# Altium schematic symbol library BOARDS.SchLib: 11 symbols
Pins are listed as number, name and electrical type; pins without a type are passive.

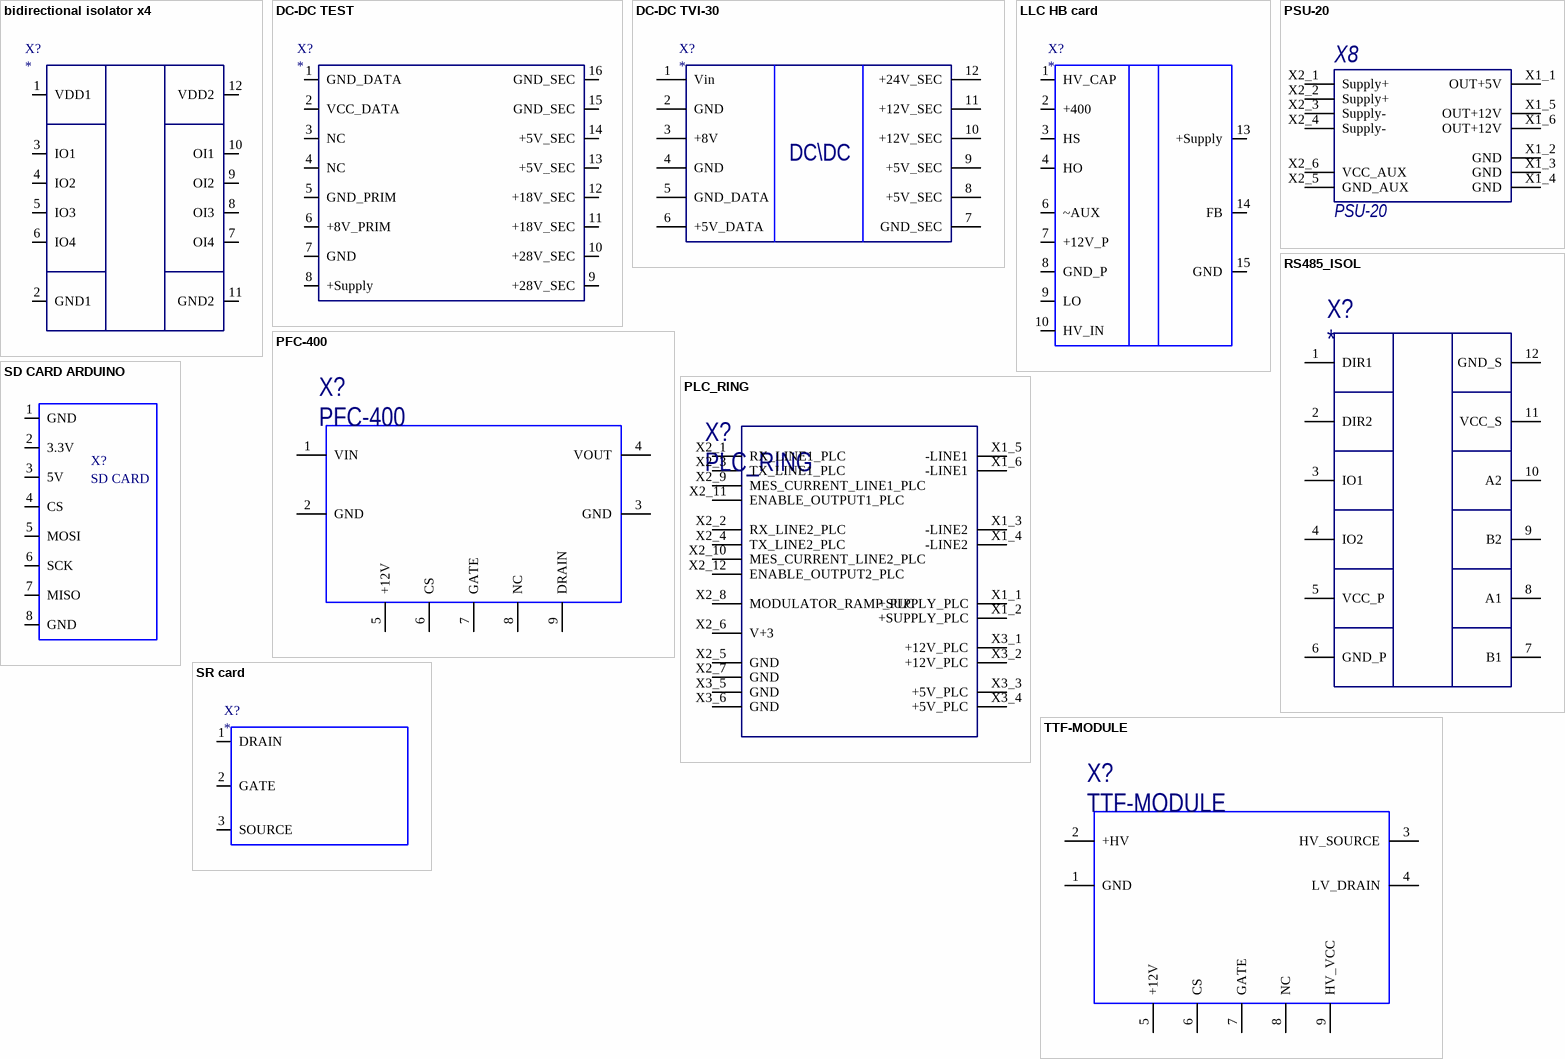
[diagram p0: symbols bidirectional isolator x4 to TTF-MODULE]

## bidirectional isolator x4
designator X?
ComponentDescription: *
footprint Bidirectional isolator 4
pins: 1 VDD1, 2 GND1, 3 IO1, 4 IO2, 5 IO3, 6 IO4, 7 OI4, 8 OI3, 9 OI2, 10 OI1, 11 GND2, 12 VDD2

## DC-DC TEST
designator X?
ComponentDescription: *
footprint DC DC
pins: 1 GND_DATA, 2 VCC_DATA, 3 NC, 4 NC, 5 GND_PRIM, 6 +8V_PRIM, 7 GND, 8 +Supply, 9 +28V_SEC, 10 +28V_SEC, 11 +18V_SEC, 12 +18V_SEC, 13 +5V_SEC, 14 +5V_SEC, 15 GND_SEC, 16 GND_SEC

## DC-DC TVI-30
designator X?
ComponentDescription: *
footprint DC-DC TVI-30
pins: 1 Vin, 2 GND, 3 +8V, 4 GND, 5 GND_DATA, 6 +5V_DATA, 7 GND_SEC, 8 +5V_SEC, 9 +5V_SEC, 10 +12V_SEC, 11 +12V_SEC, 12 +24V_SEC
text: DC\DC

## LLC HB card
designator X?
ComponentDescription: *
footprint LLC HB card
pins: 1 HV_CAP, 2 +400, 3 HS, 4 HO, 6 ~AUX, 7 +12V_P, 8 GND_P, 9 LO, 10 HV_IN, 13 +Supply, 14 FB, 15 GND

## PFC-400
designator X?
ComponentDescription: PFC-400
footprint PFC-400
pins: 1 VIN, 2 GND, 3 GND, 4 VOUT, 5 +12V, 6 CS, 7 GATE, 8 NC, 9 DRAIN

## PLC_RING
designator X?
ComponentDescription: PLC_RING
footprint PLC_RING
pins: X1_1 +SUPPLY_PLC, X1_2 +SUPPLY_PLC, X1_3 -LINE2, X1_4 -LINE2, X1_5 -LINE1, X1_6 -LINE1, X2_1 RX_LINE1_PLC, X2_2 RX_LINE2_PLC, X2_3 TX_LINE1_PLC, X2_4 TX_LINE2_PLC, X2_5 GND, X2_6 V+3, X2_7 GND, X2_8 MODULATOR_RAMP_PLC, X2_9 MES_CURRENT_LINE1_PLC, X2_10 MES_CURRENT_LINE2_PLC, X2_11 ENABLE_OUTPUT1_PLC, X2_12 ENABLE_OUTPUT2_PLC, X3_1 +12V_PLC, X3_2 +12V_PLC, X3_3 +5V_PLC, X3_4 +5V_PLC, X3_5 GND, X3_6 GND

## PSU-20
designator X8
ComponentDescription: PSU-20
footprint PSU-20
pins: X1_1 OUT+5V, X1_2 GND, X1_3 GND, X1_4 GND, X1_5 OUT+12V, X1_6 OUT+12V, X2_1 Supply+, X2_2 Supply+, X2_3 Supply-, X2_4 Supply-, X2_5 GND_AUX, X2_6 VCC_AUX

## RS485_ISOL
designator X?
ComponentDescription: *
footprint RS485_ISOL
footprint RS485_ISOL_LS
footprint RS485_ISOL_LS_FLIP
pins: 1 DIR1, 2 DIR2, 3 IO1, 4 IO2, 5 VCC_P, 6 GND_P, 7 B1, 8 A1, 9 B2, 10 A2, 11 VCC_S, 12 GND_S

## SD CARD ARDUINO
designator X?, comment SD CARD
ComponentDescription: SD CARD
footprint SD CARD ARDUINO
pins: 1 GND, 2 3.3V, 3 5V, 4 CS, 5 MOSI, 6 SCK, 7 MISO, 8 GND

## SR card
designator X?
ComponentDescription: *
footprint SR RECT CARD
pins: 1 DRAIN, 2 GATE, 3 SOURCE

## TTF-MODULE
designator X?
ComponentDescription: TTF-MODULE
footprint TTF-MODULE
pins: 1 GND, 2 +HV, 3 HV_SOURCE, 4 LV_DRAIN, 5 +12V, 6 CS, 7 GATE, 8 NC, 9 HV_VCC